# EAGLE library part ARDUINO_UNO_R3_NO-HOLES_NO-AVR-ISP_NO-I2C_NO-NC_NO-IOREF (library PiB_boards)
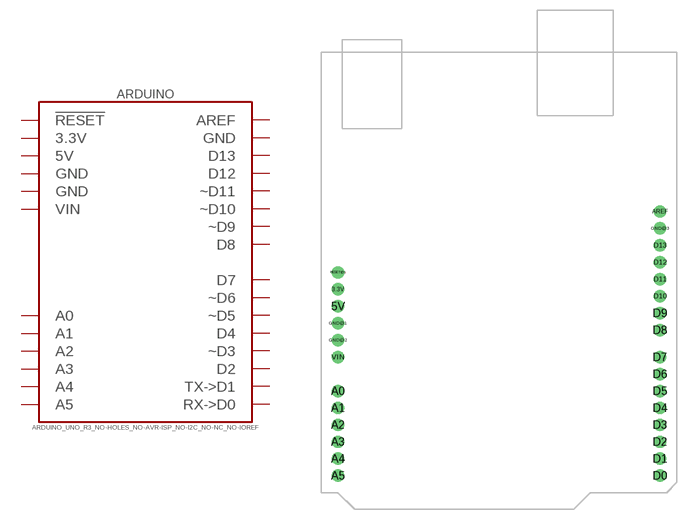
[diagram p2: symbol with the pads of ARDUINO_UNO_R3_NO-HOLES_NO-AVR-ISP_NO-I2C_NO-NC_NO-IOREF; footprint ARDUINO_UNO_R3_NO-HOLES_NO-AVR-ISP_NO-I2C_NO-NC_NO-IOREF]

Designator prefix ARDUINO

## ARDUINO_UNO_R3_NO-HOLES_NO-AVR-ISP_NO-I2C_NO-NC_NO-IOREF (DATASHEET: https://media.digikey.com/pdf/Data%20Sheets/Arduino%20PDFs/A000066_Web.pdf; DATASHEET_CABLE: http://www.assmann-wsw.com/fileadmin/datasheets/ASS_7066_CA.pdf; DATASHEET_CONNECTOR: http://www.sullinscorp.com/drawings/77____C___S___N-OMIT,_M500,_STRAIGHT,_C10436.pdf; DIST: Digikey; DISTLINK: https://www.digikey.com/products/en?keywords=1050-1024-ND; DISTLINK_CABLE: https://www.digikey.com/products/en?keywords=AE1462-ND; DISTLINK_CONNECTOR1: https://www.digikey.com/products/en?keywords=S1012E-06-ND; DISTLINK_CONNECTOR2: https://www.digikey.com/products/en?keywords=PEC08SAAN; DISTPN: 1050-1024-ND; DISTPN_CABLE: AE1462-ND; DISTPN_CONNECTOR1: S1012E-06-ND; DISTPN_CONNECTOR2: S1012E-08-ND; DIST_CABLE: Digikey; DIST_CONNECTOR: Digikey; MFR: Arduino; MFR_CABLE: Assmann WSW Components; MFR_CONNECTOR: Sullins Connector Solutions; MPN: A000066; MPN_CABLE: AK672/2-1; MPN_CONNECTOR1: PEC06SAAN; MPN_CONNECTOR2: PEC08SAAN; QTY_CONNECTOR1: 2; QTY_CONNECTOR2: 2; VALUE: Arduino UNO R3)  [ARDUINO_UNO_R3_NO-HOLES_NO-AVR-ISP_NO-I2C_NO-NC_NO-IOREF]
3.3V  3.3V
5V  5V
A0  A0
A1  A1
A2  A2
A3  A3
A4  A4
A5  A5
AREF  AREF
D0  RX->D0
D1  TX->D1
D2  D2
D3  ~D3
D4  D4
D5  ~D5
D6  ~D6
D7  D7
D8  D8
D9  ~D9
D10  ~D10
D11  ~D11
D12  D12
D13  D13
GND@1  GND
GND@2  GND
GND@3  GND
RESET@1  !RESET
VIN  VIN

## Footprint ARDUINO_UNO_R3_NO-HOLES_NO-AVR-ISP_NO-I2C_NO-NC_NO-IOREF (pad centres in mm)
drill 1 pad 1.85: 3.3V 2.54,30.48; 5V 2.54,27.94; A0 2.54,15.24; A1 2.54,12.7; A2 2.54,10.16; A3 2.54,7.62; A4 2.54,5.08; A5 2.54,2.54; AREF 50.8,42.164; D0 50.8,2.54; D1 50.8,5.08; D2 50.8,7.62; D3 50.8,10.16; D4 50.8,12.7; D5 50.8,15.24; D6 50.8,17.78; D7 50.8,20.32; D8 50.8,24.384; D9 50.8,26.924; D10 50.8,29.464; D11 50.8,32.004; D12 50.8,34.544; D13 50.8,37.084; GND@1 2.54,25.4; GND@2 2.54,22.86; GND@3 50.8,39.624; RESET@1 2.54,33.02; VIN 2.54,20.32